# Altium footprint library HCSK1216FT1L00.PcbLib: 1 footprints
Each footprint in its own frame and in the unit in brackets; x right, y up, seen from the top. Pads: shape width x height; smd on the part's side, far side on the other; paste and mask are expansions set on the pad; w line width, h text height; cw(c..) or ccw(c..) is an arc to the next point about the centre after c.
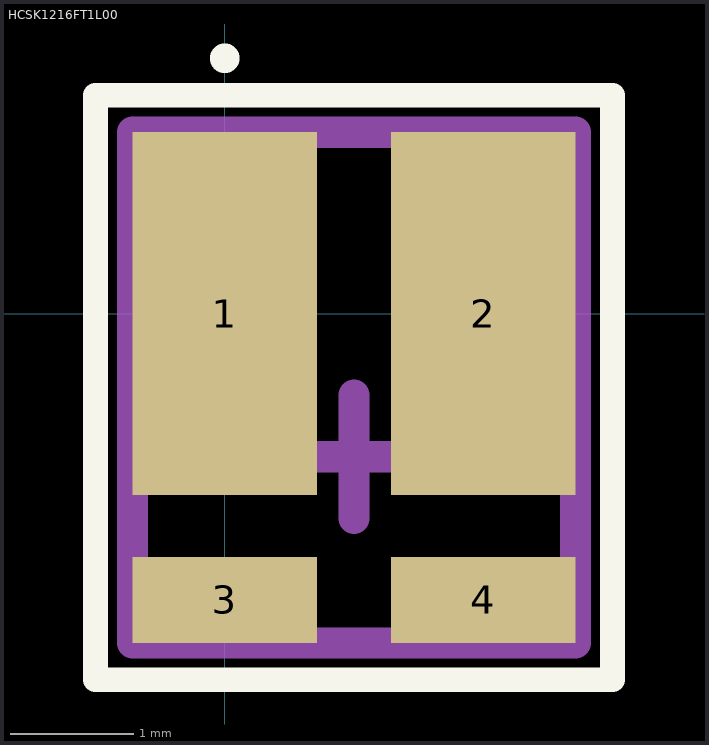
[diagram p0: the footprint, top view; thin cyan lines are the x and y axes]

## HCSK1216FT1L00 [mm]
pads (4):
  rect 1.5x2.95 smd paste+0 mask+0: 1(0,0) 2(2.1,0)
  rect 1.5x0.7 smd paste+0 mask+0: 3(0,-2.325) 4(2.1,-2.325)
Top Overlay:
  circle w0.2: c0,2.075 r0.02
  lines w0.2: -1.05,-2.975 -1.05,1.775 0.05,1.775 0.55,1.775 1.55,1.775 2.05,1.775 3.15,1.775 3.15,-2.975 -1.05,-2.975
Top Designator:
  text ".Designator" at -6.568,-0.948 h1.52
3D Body:
  lines w0.254: -0.75,-2.675 2.85,-2.675 2.85,1.475 -0.75,1.475 -0.75,-2.675
Center Cross:
  lines w0.254: 0.55,-1.162 1.05,-1.162 ; 1.05,-1.662 1.05,-1.162 ; 1.05,-0.663 1.05,-1.162 ; 1.55,-1.162 1.05,-1.162
3D body: height 0.3, standoff 0, extent 1.8,-1.475 2.85,1.475
3D body: height 0.3, standoff 0, extent -0.75,-1.475 0.3,1.475
3D body: height 1.5, standoff 0.3, extent -0.75,-1.475 -0.475,1.475
3D body: height 1.5, standoff 0.3, extent 2.575,-1.475 2.85,1.475
3D body: height 0.3, standoff 0, extent -0.75,-2.675 0.3,-1.975
3D body: height 1.5, standoff 0.3, extent -0.75,-2.675 -0.475,-1.975
3D body: height 0.3, standoff 0, extent 1.8,-2.675 2.85,-1.975
3D body: height 1.5, standoff 0.3, extent 2.575,-2.675 2.85,-1.975
3D body: height 1.8, standoff 1.5, extent -0.75,-2.675 2.85,1.475